# Altium footprint library mw.PcbLib: 252 footprints (part 3 of 16)
Each footprint in its own frame and in the unit in brackets; x right, y up, seen from the top. Pads: shape width x height; smd on the part's side, far side on the other; paste and mask are expansions set on the pad; w line width, h text height; cw(c..) or ccw(c..) is an arc to the next point about the centre after c.
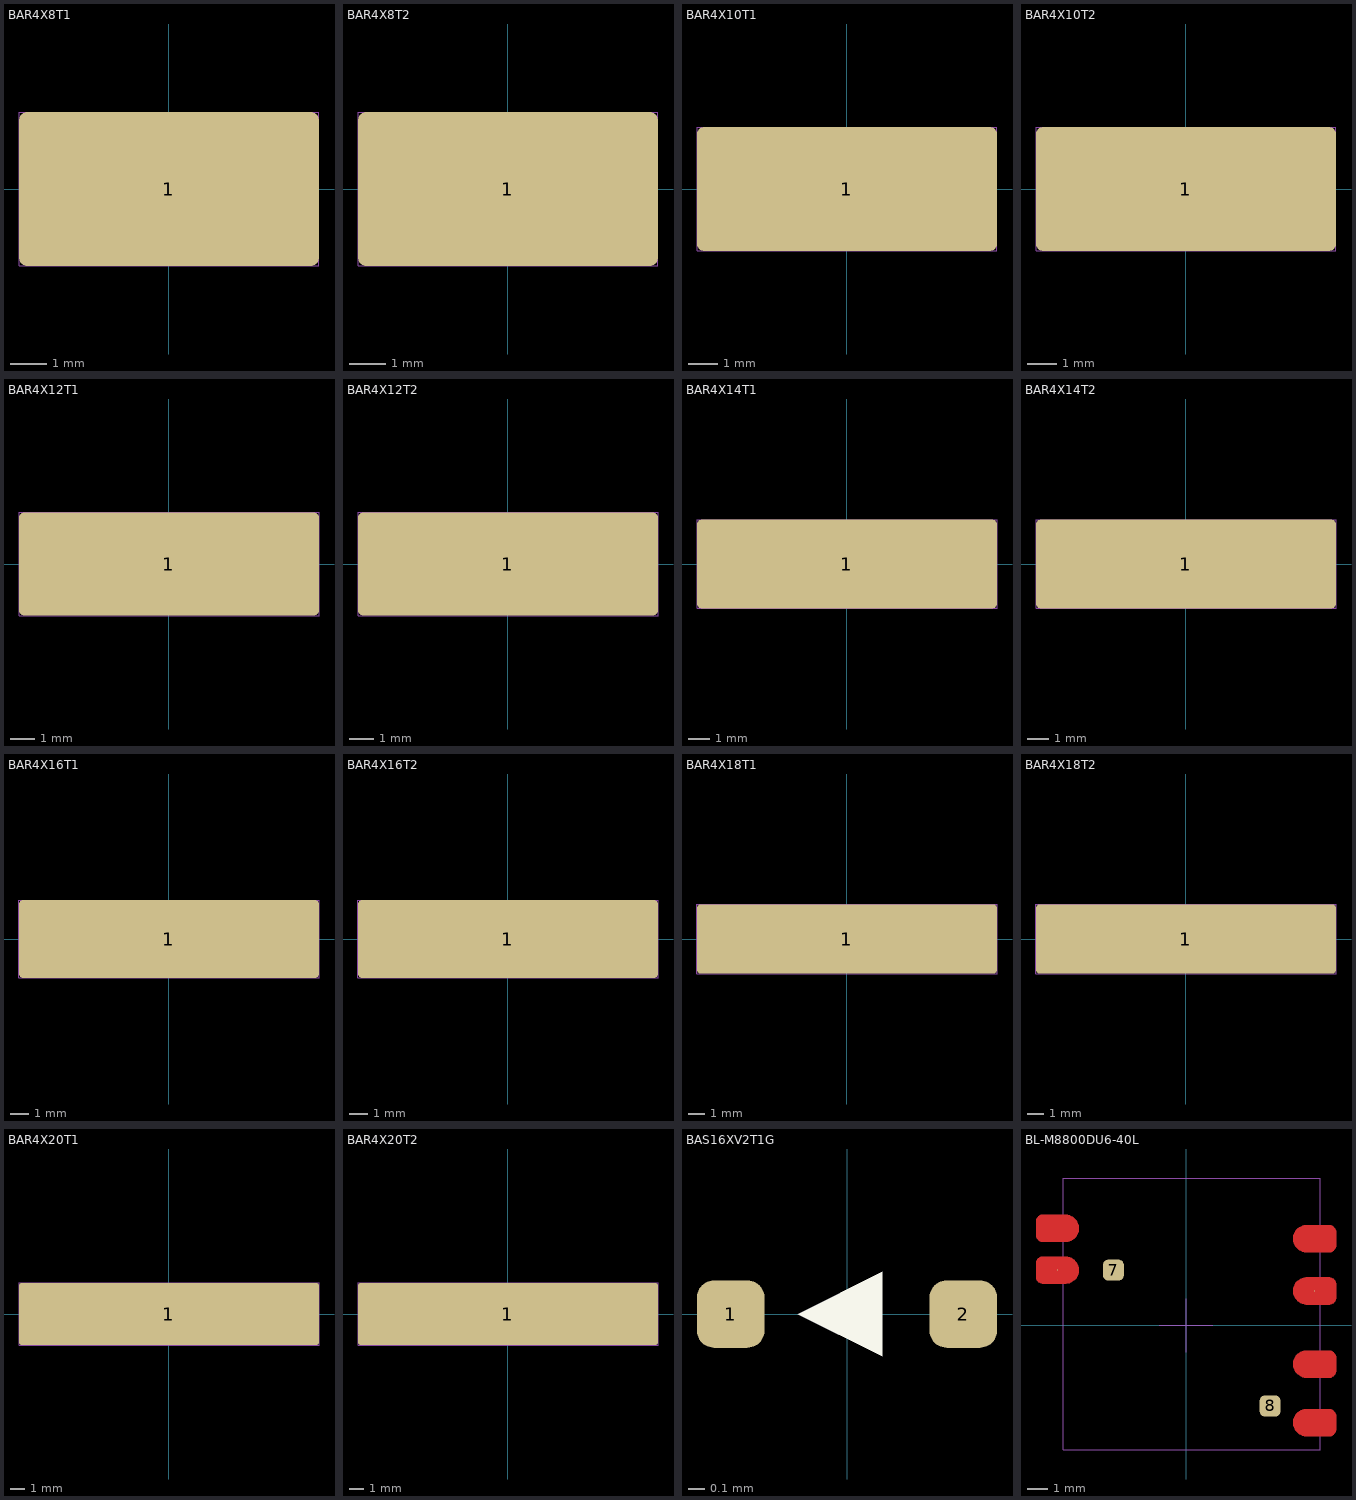
[diagram p2: the footprints below, top view; thin cyan lines are the x and y axes]

## BAR4X8T1 [mm]
pads (1):
  rrect10% 8.2x4.2 smd paste-2539.97: 1(0,0)
Top Paste:
  rectangle: 0.35,-1.65 1.65,-0.35
  rectangle: -1.65,-1.65 -0.35,-0.35
  rectangle: -1.65,0.35 -0.35,1.65
  rectangle: 0.35,0.35 1.65,1.65
  rectangle: 2.35,-1.65 3.65,-0.35
  rectangle: 2.35,0.35 3.65,1.65
  rectangle: -3.65,-1.65 -2.35,-0.35
  rectangle: -3.65,0.35 -2.35,1.65
Top Courtyard:
  lines w0.025: -0.635,0 0.635,0 ; 0,-0.635 0,0.635 ; -4.1,-2.1 4.1,-2.1 4.1,2.1 -4.1,2.1 -4.1,-2.1
3D body "BAR4X8T1.step": height 1, standoff 0, extent -4,-2 4,2

## BAR4X8T2 [mm]
pads (1):
  rrect10% 8.2x4.2 smd paste-2539.97: 1(0,0)
Top Paste:
  rectangle: 0.35,-1.65 1.65,-0.35
  rectangle: -1.65,-1.65 -0.35,-0.35
  rectangle: -1.65,0.35 -0.35,1.65
  rectangle: 0.35,0.35 1.65,1.65
  rectangle: 2.35,-1.65 3.65,-0.35
  rectangle: 2.35,0.35 3.65,1.65
  rectangle: -3.65,-1.65 -2.35,-0.35
  rectangle: -3.65,0.35 -2.35,1.65
Top Courtyard:
  lines w0.025: -0.635,0 0.635,0 ; 0,-0.635 0,0.635 ; -4.1,-2.1 4.1,-2.1 4.1,2.1 -4.1,2.1 -4.1,-2.1
3D body "BAR4X8T2.step": height 2, standoff 0, extent -4,-2 4,2

## BAR4X10T1 [mm]
pads (1):
  rrect10% 10.2x4.2 smd paste-2539.97: 1(0,0)
Top Paste:
  rectangle: 0.35,-1.65 1.65,-0.35
  rectangle: -1.65,-1.65 -0.35,-0.35
  rectangle: -1.65,0.35 -0.35,1.65
  rectangle: 0.35,0.35 1.65,1.65
  rectangle: 2.35,-1.65 3.65,-0.35
  rectangle: 2.35,0.35 3.65,1.65
  rectangle: -3.65,-1.65 -2.35,-0.35
  rectangle: -3.65,0.35 -2.35,1.65
Top Courtyard:
  lines w0.025: -0.635,0 0.635,0 ; 0,-0.635 0,0.635 ; -5.1,-2.1 5.1,-2.1 5.1,2.1 -5.1,2.1 -5.1,-2.1
3D body "BAR4X10T1.step": height 1, standoff 0, extent -5,-2 5,2

## BAR4X10T2 [mm]
pads (1):
  rrect10% 10.2x4.2 smd paste-2539.97: 1(0,0)
Top Paste:
  rectangle: 0.35,-1.65 1.65,-0.35
  rectangle: -1.65,-1.65 -0.35,-0.35
  rectangle: -1.65,0.35 -0.35,1.65
  rectangle: 0.35,0.35 1.65,1.65
  rectangle: 2.35,-1.65 3.65,-0.35
  rectangle: 2.35,0.35 3.65,1.65
  rectangle: -3.65,-1.65 -2.35,-0.35
  rectangle: -3.65,0.35 -2.35,1.65
Top Courtyard:
  lines w0.025: -0.635,0 0.635,0 ; 0,-0.635 0,0.635 ; -5.1,-2.1 5.1,-2.1 5.1,2.1 -5.1,2.1 -5.1,-2.1
3D body "BAR4X10T2.step": height 2, standoff 0, extent -5,-2 5,2

## BAR4X12T1 [mm]
pads (1):
  rrect10% 12.2x4.2 smd paste-2539.97: 1(0,0)
Top Paste:
  rectangle: 0.35,-1.65 1.65,-0.35
  rectangle: -1.65,-1.65 -0.35,-0.35
  rectangle: -1.65,0.35 -0.35,1.65
  rectangle: 0.35,0.35 1.65,1.65
  rectangle: 2.35,-1.65 3.65,-0.35
  rectangle: 2.35,0.35 3.65,1.65
  rectangle: -3.65,-1.65 -2.35,-0.35
  rectangle: -3.65,0.35 -2.35,1.65
  rectangle: 4.35,-1.65 5.65,-0.35
  rectangle: 4.35,0.35 5.65,1.65
  rectangle: -5.65,-1.65 -4.35,-0.35
  rectangle: -5.65,0.35 -4.35,1.65
Top Courtyard:
  lines w0.025: -0.635,0 0.635,0 ; 0,-0.635 0,0.635 ; -6.1,-2.1 -6.1,2.1 6.1,2.1 6.1,-2.1 -6.1,-2.1
3D body "BAR4X12T1.step": height 1, standoff 0, extent -6,-2 6,2

## BAR4X12T2 [mm]
pads (1):
  rrect10% 12.2x4.2 smd paste-2539.97: 1(0,0)
Top Paste:
  rectangle: 0.35,-1.65 1.65,-0.35
  rectangle: -1.65,-1.65 -0.35,-0.35
  rectangle: -1.65,0.35 -0.35,1.65
  rectangle: 0.35,0.35 1.65,1.65
  rectangle: 2.35,-1.65 3.65,-0.35
  rectangle: 2.35,0.35 3.65,1.65
  rectangle: -3.65,-1.65 -2.35,-0.35
  rectangle: -3.65,0.35 -2.35,1.65
  rectangle: 4.35,-1.65 5.65,-0.35
  rectangle: 4.35,0.35 5.65,1.65
  rectangle: -5.65,-1.65 -4.35,-0.35
  rectangle: -5.65,0.35 -4.35,1.65
Top Courtyard:
  lines w0.025: -0.635,0 0.635,0 ; 0,-0.635 0,0.635 ; -6.1,-2.1 -6.1,2.1 6.1,2.1 6.1,-2.1 -6.1,-2.1
3D body "BAR4X12T2.step": height 2, standoff 0, extent -6,-2 6,2

## BAR4X14T1 [mm]
pads (1):
  rrect10% 14.2x4.2 smd paste-2539.97: 1(0,0)
Top Paste:
  rectangle: 0.35,-1.65 1.65,-0.35
  rectangle: -1.65,-1.65 -0.35,-0.35
  rectangle: -1.65,0.35 -0.35,1.65
  rectangle: 0.35,0.35 1.65,1.65
  rectangle: 2.35,-1.65 3.65,-0.35
  rectangle: 2.35,0.35 3.65,1.65
  rectangle: -3.65,-1.65 -2.35,-0.35
  rectangle: -3.65,0.35 -2.35,1.65
  rectangle: 4.35,-1.65 5.65,-0.35
  rectangle: 4.35,0.35 5.65,1.65
  rectangle: -5.65,-1.65 -4.35,-0.35
  rectangle: -5.65,0.35 -4.35,1.65
Top Courtyard:
  lines w0.025: -0.635,0 0.635,0 ; 0,-0.635 0,0.635 ; -7.1,-2.1 7.1,-2.1 7.1,2.1 -7.1,2.1 -7.1,-2.1
3D body "BAR4X14T1.step": height 1, standoff 0, extent -7,-2 7,2

## BAR4X14T2 [mm]
pads (1):
  rrect10% 14.2x4.2 smd paste-2539.97: 1(0,0)
Top Paste:
  rectangle: 0.35,-1.65 1.65,-0.35
  rectangle: -1.65,-1.65 -0.35,-0.35
  rectangle: -1.65,0.35 -0.35,1.65
  rectangle: 0.35,0.35 1.65,1.65
  rectangle: 2.35,-1.65 3.65,-0.35
  rectangle: 2.35,0.35 3.65,1.65
  rectangle: -3.65,-1.65 -2.35,-0.35
  rectangle: -3.65,0.35 -2.35,1.65
  rectangle: 4.35,-1.65 5.65,-0.35
  rectangle: 4.35,0.35 5.65,1.65
  rectangle: -5.65,-1.65 -4.35,-0.35
  rectangle: -5.65,0.35 -4.35,1.65
Top Courtyard:
  lines w0.025: -0.635,0 0.635,0 ; 0,-0.635 0,0.635 ; -7.1,-2.1 -7.1,2.1 7.1,2.1 7.1,-2.1 -7.1,-2.1
3D body "BAR4X14T2.step": height 2, standoff 0, extent -7,-2 7,2

## BAR4X16T1 [mm]
pads (1):
  rrect10% 16.2x4.2 smd paste-2539.97: 1(0,0)
Top Paste:
  rectangle: 0.35,-1.65 1.65,-0.35
  rectangle: -1.65,-1.65 -0.35,-0.35
  rectangle: -1.65,0.35 -0.35,1.65
  rectangle: 0.35,0.35 1.65,1.65
  rectangle: 2.35,-1.65 3.65,-0.35
  rectangle: 2.35,0.35 3.65,1.65
  rectangle: -3.65,-1.65 -2.35,-0.35
  rectangle: -3.65,0.35 -2.35,1.65
  rectangle: 4.35,-1.65 5.65,-0.35
  rectangle: 4.35,0.35 5.65,1.65
  rectangle: -5.65,-1.65 -4.35,-0.35
  rectangle: -5.65,0.35 -4.35,1.65
  rectangle: 6.35,-1.65 7.65,-0.35
  rectangle: 6.35,0.35 7.65,1.65
  rectangle: -7.65,-1.65 -6.35,-0.35
  rectangle: -7.65,0.35 -6.35,1.65
Top Courtyard:
  lines w0.025: -0.635,0 0.635,0 ; 0,-0.635 0,0.635 ; -8.1,-2.1 8.1,-2.1 8.1,2.1 -8.1,2.1 -8.1,-2.1
3D body "BAR4X16T1.step": height 1, standoff 0, extent -8,-2 8,2

## BAR4X16T2 [mm]
pads (1):
  rrect10% 16.2x4.2 smd paste-2539.97: 1(0,0)
Top Paste:
  rectangle: 0.35,-1.65 1.65,-0.35
  rectangle: -1.65,-1.65 -0.35,-0.35
  rectangle: -1.65,0.35 -0.35,1.65
  rectangle: 0.35,0.35 1.65,1.65
  rectangle: 2.35,-1.65 3.65,-0.35
  rectangle: 2.35,0.35 3.65,1.65
  rectangle: -3.65,-1.65 -2.35,-0.35
  rectangle: -3.65,0.35 -2.35,1.65
  rectangle: 4.35,-1.65 5.65,-0.35
  rectangle: 4.35,0.35 5.65,1.65
  rectangle: -5.65,-1.65 -4.35,-0.35
  rectangle: -5.65,0.35 -4.35,1.65
  rectangle: 6.35,-1.65 7.65,-0.35
  rectangle: 6.35,0.35 7.65,1.65
  rectangle: -7.65,-1.65 -6.35,-0.35
  rectangle: -7.65,0.35 -6.35,1.65
Top Courtyard:
  lines w0.025: -0.635,0 0.635,0 ; 0,-0.635 0,0.635 ; -8.1,-2.1 8.1,-2.1 8.1,2.1 -8.1,2.1 -8.1,-2.1
3D body "BAR4X16T2.step": height 2, standoff 0, extent -8,-2 8,2

## BAR4X18T1 [mm]
pads (1):
  rrect10% 18.2x4.2 smd paste-2539.97: 1(0,0)
Top Paste:
  rectangle: 0.35,-1.65 1.65,-0.35
  rectangle: -1.65,-1.65 -0.35,-0.35
  rectangle: -1.65,0.35 -0.35,1.65
  rectangle: 0.35,0.35 1.65,1.65
  rectangle: 2.35,-1.65 3.65,-0.35
  rectangle: 2.35,0.35 3.65,1.65
  rectangle: -3.65,-1.65 -2.35,-0.35
  rectangle: -3.65,0.35 -2.35,1.65
  rectangle: 4.35,-1.65 5.65,-0.35
  rectangle: 4.35,0.35 5.65,1.65
  rectangle: -5.65,-1.65 -4.35,-0.35
  rectangle: -5.65,0.35 -4.35,1.65
  rectangle: 6.35,-1.65 7.65,-0.35
  rectangle: 6.35,0.35 7.65,1.65
  rectangle: -7.65,-1.65 -6.35,-0.35
  rectangle: -7.65,0.35 -6.35,1.65
Top Courtyard:
  lines w0.025: -0.635,0 0.635,0 ; 0,-0.635 0,0.635 ; -9.1,-2.1 9.1,-2.1 9.1,2.1 -9.1,2.1 -9.1,-2.1
3D body "BAR4X18T1.step": height 1, standoff 0, extent -9,-2 9,2

## BAR4X18T2 [mm]
pads (1):
  rrect10% 18.2x4.2 smd paste-2539.97: 1(0,0)
Top Paste:
  rectangle: 0.35,-1.65 1.65,-0.35
  rectangle: -1.65,-1.65 -0.35,-0.35
  rectangle: -1.65,0.35 -0.35,1.65
  rectangle: 0.35,0.35 1.65,1.65
  rectangle: 2.35,-1.65 3.65,-0.35
  rectangle: 2.35,0.35 3.65,1.65
  rectangle: -3.65,-1.65 -2.35,-0.35
  rectangle: -3.65,0.35 -2.35,1.65
  rectangle: 4.35,-1.65 5.65,-0.35
  rectangle: 4.35,0.35 5.65,1.65
  rectangle: -5.65,-1.65 -4.35,-0.35
  rectangle: -5.65,0.35 -4.35,1.65
  rectangle: 6.35,-1.65 7.65,-0.35
  rectangle: 6.35,0.35 7.65,1.65
  rectangle: -7.65,-1.65 -6.35,-0.35
  rectangle: -7.65,0.35 -6.35,1.65
Top Courtyard:
  lines w0.025: -0.635,0 0.635,0 ; 0,-0.635 0,0.635 ; -9.1,-2.1 9.1,-2.1 9.1,2.1 -9.1,2.1 -9.1,-2.1
3D body "BAR4X18T2.step": height 2, standoff 0, extent -9,-2 9,2

## BAR4X20T1 [mm]
pads (1):
  rrect10% 20.2x4.2 smd paste-2539.97: 1(0,0)
Top Paste:
  rectangle: 0.35,-1.65 1.65,-0.35
  rectangle: -1.65,-1.65 -0.35,-0.35
  rectangle: -1.65,0.35 -0.35,1.65
  rectangle: 0.35,0.35 1.65,1.65
  rectangle: 2.35,-1.65 3.65,-0.35
  rectangle: 2.35,0.35 3.65,1.65
  rectangle: -3.65,-1.65 -2.35,-0.35
  rectangle: -3.65,0.35 -2.35,1.65
  rectangle: 4.35,-1.65 5.65,-0.35
  rectangle: 4.35,0.35 5.65,1.65
  rectangle: -5.65,-1.65 -4.35,-0.35
  rectangle: -5.65,0.35 -4.35,1.65
  rectangle: 6.35,-1.65 7.65,-0.35
  rectangle: 6.35,0.35 7.65,1.65
  rectangle: -7.65,-1.65 -6.35,-0.35
  rectangle: -7.65,0.35 -6.35,1.65
  rectangle: 8.35,-1.65 9.65,-0.35
  rectangle: 8.35,0.35 9.65,1.65
  rectangle: -9.65,-1.65 -8.35,-0.35
  rectangle: -9.65,0.35 -8.35,1.65
Top Courtyard:
  lines w0.025: -0.635,0 0.635,0 ; 0,-0.635 0,0.635 ; -10.1,-2.1 10.1,-2.1 10.1,2.1 -10.1,2.1 -10.1,-2.1
3D body "BAR4X20T1.step": height 1, standoff 0, extent -10,-2 10,2

## BAR4X20T2 [mm]
pads (1):
  rrect10% 20.2x4.2 smd paste-2539.97: 1(0,0)
Top Paste:
  rectangle: 0.35,-1.65 1.65,-0.35
  rectangle: -1.65,-1.65 -0.35,-0.35
  rectangle: -1.65,0.35 -0.35,1.65
  rectangle: 0.35,0.35 1.65,1.65
  rectangle: 2.35,-1.65 3.65,-0.35
  rectangle: 2.35,0.35 3.65,1.65
  rectangle: -3.65,-1.65 -2.35,-0.35
  rectangle: -3.65,0.35 -2.35,1.65
  rectangle: 4.35,-1.65 5.65,-0.35
  rectangle: 4.35,0.35 5.65,1.65
  rectangle: -5.65,-1.65 -4.35,-0.35
  rectangle: -5.65,0.35 -4.35,1.65
  rectangle: 6.35,-1.65 7.65,-0.35
  rectangle: 6.35,0.35 7.65,1.65
  rectangle: -7.65,-1.65 -6.35,-0.35
  rectangle: -7.65,0.35 -6.35,1.65
  rectangle: 8.35,-1.65 9.65,-0.35
  rectangle: 8.35,0.35 9.65,1.65
  rectangle: -9.65,-1.65 -8.35,-0.35
  rectangle: -9.65,0.35 -8.35,1.65
Top Courtyard:
  lines w0.025: -0.635,0 0.635,0 ; 0,-0.635 0,0.635 ; -10.1,-2.1 10.1,-2.1 10.1,2.1 -10.1,2.1 -10.1,-2.1
3D body "BAR4X20T2.step": height 2, standoff 0, extent -10,-2 10,2

## BAS16XV2T1G [mil] "BAS16XV2T1G"
pads (2):
  rrect50% 16x16 smd: 1(-27.56,0) 2(27.56,0)
Top Overlay:
  region: 8.33,-9.98 8.33,10.02 -11.67,0.02

## BL-M8800DU6-40L [mm]
height 1.8
pads (8):
  round 0.025 smd paste-0.199: 1(-6.15,4.65) 2(-6.15,2.65) 3(6.15,-4.65) 4(6.15,-1.85) 5(6.15,1.65) 6(6.15,4.15)
  rrect50% 1x1 smd: 7(-3.475,2.65) 8(4.025,-3.85)
Top Layer:
  region: 7.175,-4.325 7.175,-4.975 7.175,-5.007 7.163,-5.07 7.138,-5.129 7.102,-5.182 7.057,-5.227 7.004,-5.263 6.945,-5.288 6.882,-5.3 6.85,-5.3 5.783,-5.3 5.74,-5.3 5.654,-5.289 5.571,-5.266 5.491,-5.233 5.417,-5.19 5.348,-5.138 5.287,-5.077 5.235,-5.008 5.192,-4.934 5.159,-4.854 5.136,-4.771 5.125,-4.685 5.125,-4.642 5.125,-4.6 5.136,-4.517 5.158,-4.435 5.19,-4.358 5.232,-4.285 5.283,-4.218 5.343,-4.158 5.41,-4.107 5.483,-4.065 5.56,-4.033 5.642,-4.011 5.725,-4 5.767,-4 6.85,-4 6.882,-4 6.945,-4.012 7.004,-4.037 7.057,-4.073 7.102,-4.118 7.138,-4.171 7.163,-4.23 7.175,-4.293
  region: 7.175,-1.525 7.175,-2.175 7.175,-2.207 7.163,-2.27 7.138,-2.329 7.102,-2.382 7.057,-2.427 7.004,-2.463 6.945,-2.488 6.882,-2.5 6.85,-2.5 5.783,-2.5 5.74,-2.5 5.654,-2.489 5.571,-2.466 5.491,-2.433 5.417,-2.39 5.348,-2.338 5.287,-2.277 5.235,-2.208 5.192,-2.134 5.159,-2.054 5.136,-1.971 5.125,-1.885 5.125,-1.842 5.125,-1.8 5.136,-1.717 5.158,-1.635 5.19,-1.558 5.232,-1.485 5.283,-1.418 5.343,-1.358 5.41,-1.307 5.483,-1.265 5.56,-1.233 5.642,-1.211 5.725,-1.2 5.767,-1.2 6.85,-1.2 6.882,-1.2 6.945,-1.212 7.004,-1.237 7.057,-1.273 7.102,-1.318 7.138,-1.371 7.163,-1.43 7.175,-1.493
  region: 7.175,1.975 7.175,1.325 7.175,1.293 7.163,1.23 7.138,1.171 7.102,1.118 7.057,1.073 7.004,1.037 6.945,1.012 6.882,1 6.85,1 5.783,1 5.74,1 5.654,1.011 5.571,1.034 5.491,1.067 5.417,1.11 5.348,1.162 5.287,1.223 5.235,1.292 5.192,1.366 5.159,1.446 5.136,1.529 5.125,1.615 5.125,1.658 5.125,1.7 5.136,1.783 5.158,1.865 5.19,1.942 5.232,2.015 5.283,2.082 5.343,2.142 5.41,2.193 5.483,2.235 5.56,2.267 5.642,2.289 5.725,2.3 5.767,2.3 6.85,2.3 6.882,2.3 6.945,2.288 7.004,2.263 7.057,2.227 7.102,2.182 7.138,2.129 7.163,2.07 7.175,2.007
  region: 7.175,4.475 7.175,3.825 7.175,3.793 7.163,3.73 7.138,3.671 7.102,3.618 7.057,3.573 7.004,3.537 6.945,3.512 6.882,3.5 6.85,3.5 5.783,3.5 5.74,3.5 5.654,3.511 5.571,3.534 5.491,3.567 5.417,3.61 5.348,3.662 5.287,3.723 5.235,3.792 5.192,3.866 5.159,3.946 5.136,4.029 5.125,4.115 5.125,4.158 5.125,4.2 5.136,4.283 5.158,4.365 5.19,4.442 5.232,4.515 5.283,4.582 5.343,4.642 5.41,4.693 5.483,4.735 5.56,4.767 5.642,4.789 5.725,4.8 5.767,4.8 6.85,4.8 6.882,4.8 6.945,4.788 7.004,4.763 7.057,4.727 7.102,4.682 7.138,4.629 7.163,4.57 7.175,4.507
  region: -7.175,2.325 -7.175,2.975 -7.175,3.007 -7.163,3.07 -7.138,3.129 -7.102,3.182 -7.057,3.227 -7.004,3.263 -6.945,3.288 -6.882,3.3 -6.85,3.3 -5.783,3.3 -5.74,3.3 -5.654,3.289 -5.571,3.266 -5.491,3.233 -5.417,3.19 -5.348,3.138 -5.287,3.077 -5.235,3.008 -5.192,2.934 -5.159,2.854 -5.136,2.771 -5.125,2.685 -5.125,2.642 -5.125,2.6 -5.136,2.517 -5.158,2.435 -5.19,2.358 -5.232,2.285 -5.283,2.218 -5.343,2.158 -5.41,2.107 -5.483,2.065 -5.56,2.033 -5.642,2.011 -5.725,2 -5.767,2 -6.85,2 -6.882,2 -6.945,2.012 -7.004,2.037 -7.057,2.073 -7.102,2.118 -7.138,2.171 -7.163,2.23 -7.175,2.293
  region: -7.175,4.325 -7.175,4.975 -7.175,5.007 -7.163,5.07 -7.138,5.129 -7.102,5.182 -7.057,5.227 -7.004,5.263 -6.945,5.288 -6.882,5.3 -6.85,5.3 -5.783,5.3 -5.74,5.3 -5.654,5.289 -5.571,5.266 -5.491,5.233 -5.417,5.19 -5.348,5.138 -5.287,5.077 -5.235,5.008 -5.192,4.934 -5.159,4.854 -5.136,4.771 -5.125,4.685 -5.125,4.642 -5.125,4.6 -5.136,4.517 -5.158,4.435 -5.19,4.358 -5.232,4.285 -5.283,4.218 -5.343,4.158 -5.41,4.107 -5.483,4.065 -5.56,4.033 -5.642,4.011 -5.725,4 -5.767,4 -6.85,4 -6.882,4 -6.945,4.012 -7.004,4.037 -7.057,4.073 -7.102,4.118 -7.138,4.171 -7.163,4.23 -7.175,4.293
Top 3D Body (Mech13):
  lines w0.025: -5.875,-5.95 6.425,-5.95 6.425,7.05 -5.875,7.05 -5.875,-5.95
Top Courtyard:
  lines w0.025: -1.27,0 1.27,0 ; 0,-1.27 0,1.27 ; -5.875,-5.95 6.425,-5.95 6.425,7.05 -5.875,7.05 -5.875,-5.95